# Altium schematic symbol library lora.SchLib: 1 symbol
Pins are listed as number, name and electrical type; pins without a type are passive.

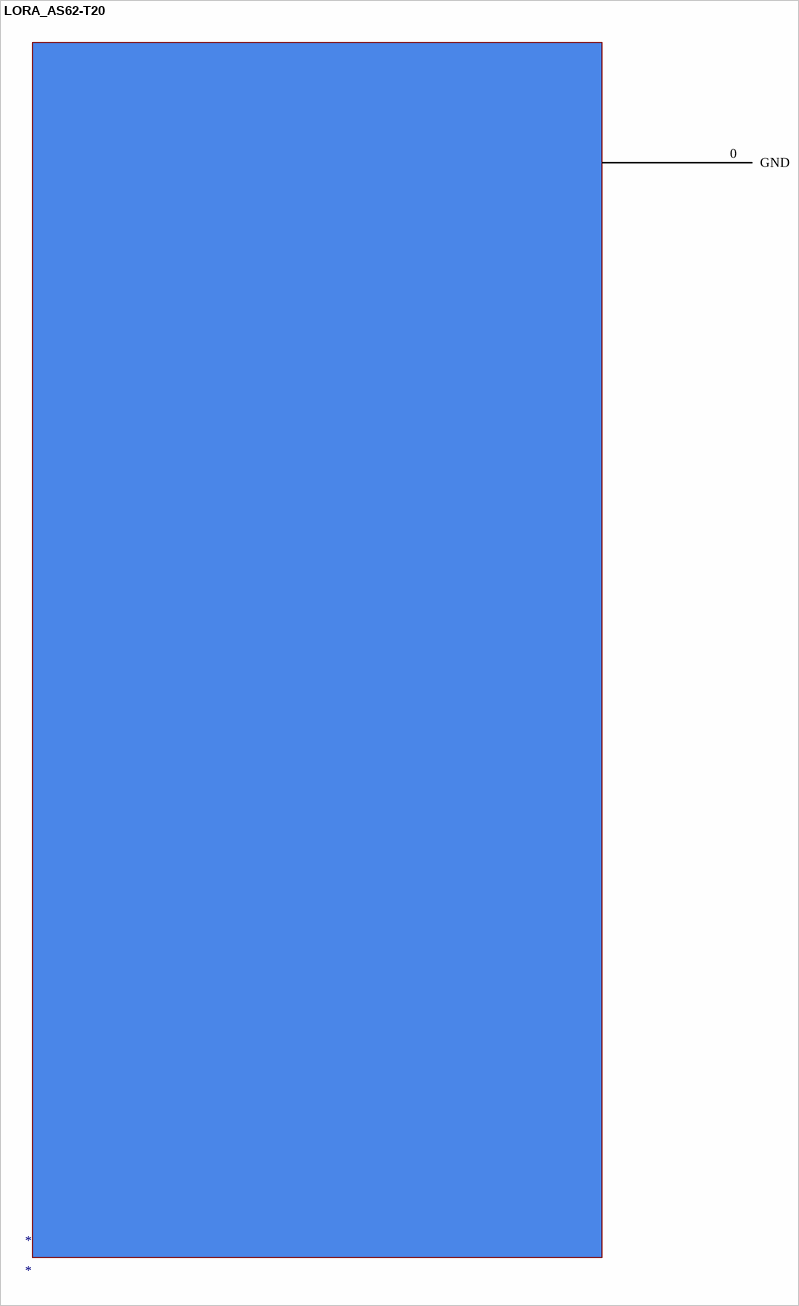
[diagram p0: symbol LORA_AS62-T20]

## LORA_AS62-T20
designator *
footprint LORA_AS62-T20 (Footprint not found)
pins: 0 GND
1 alternate drawing of the same symbol